# EAGLE library part SSW-113-02-S-Q (library con-samtec)
THROUGH-HOLE .025" SQ POST SOCKET Source: Samtec SSW.pdf
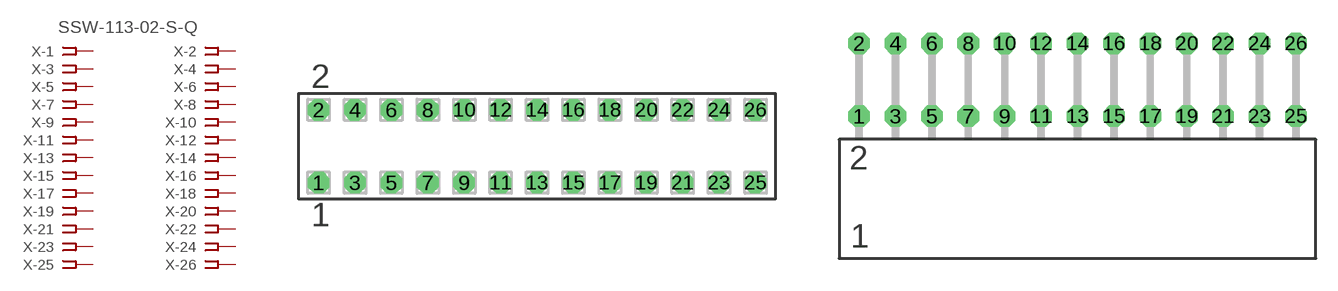
[diagram p135: symbol with the pads of SSW-113-02-S-Q; footprints SSW-113-02-S-Q, SSW-113-02-S-Q-RA]

Designator prefix X; gates -1=FPINV -2=FPIN -3=FPIN -4=FPIN -5=FPIN -6=FPIN -7=FPIN -8=FPIN -9=FPIN -10=FPIN -11=FPIN -12=FPIN -13=FPIN -14=FPIN -15=FPIN -16=FPIN -17=FPIN -18=FPIN -19=FPIN -20=FPIN -21=FPIN -22=FPIN -23=FPIN -24=FPIN -25=FPIN -26=FPIN

## SSW-113-02-S-Q  [SSW-113-02-S-Q]
1  -1:1  pas
2  -2:1  pas
3  -3:1  pas
4  -4:1  pas
5  -5:1  pas
6  -6:1  pas
7  -7:1  pas
8  -8:1  pas
9  -9:1  pas
10  -10:1  pas
11  -11:1  pas
12  -12:1  pas
13  -13:1  pas
14  -14:1  pas
15  -15:1  pas
16  -16:1  pas
17  -17:1  pas
18  -18:1  pas
19  -19:1  pas
20  -20:1  pas
21  -21:1  pas
22  -22:1  pas
23  -23:1  pas
24  -24:1  pas
25  -25:1  pas
26  -26:1  pas

## SSW-113-02-S-QRA  [SSW-113-02-S-Q-RA]
Pads as for SSW-113-02-S-Q

## Footprint SSW-113-02-S-Q (pad centres in mm)
THROUGH-HOLE .025" SQ POST SOCKET Source: Samtec SSW.pdf
drill 1 pad 1.5 octagon: 1 -15.24,-2.54; 2 -15.24,2.54; 3 -12.7,-2.54; 4 -12.7,2.54; 5 -10.16,-2.54; 6 -10.16,2.54; 7 -7.62,-2.54; 8 -7.62,2.54; 9 -5.08,-2.54; 10 -5.08,2.54; 11 -2.54,-2.54; 12 -2.54,2.54; 13 0,-2.54; 14 0,2.54; 15 2.54,-2.54; 16 2.54,2.54; 17 5.08,-2.54; 18 5.08,2.54; 19 7.62,-2.54; 20 7.62,2.54; 21 10.16,-2.54; 22 10.16,2.54; 23 12.7,-2.54; 24 12.7,2.54; 25 15.24,-2.54; 26 15.24,2.54

## Footprint SSW-113-02-S-Q-RA (pad centres in mm)
THROUGH-HOLE .025" SQ POST SOCKET Source: Samtec SSW.pdf
drill 1 pad 1.5 octagon: 1 -15.24,1.524; 2 -15.24,6.604; 3 -12.7,1.524; 4 -12.7,6.604; 5 -10.16,1.524; 6 -10.16,6.604; 7 -7.62,1.524; 8 -7.62,6.604; 9 -5.08,1.524; 10 -5.08,6.604; 11 -2.54,1.524; 12 -2.54,6.604; 13 0,1.524; 14 0,6.604; 15 2.54,1.524; 16 2.54,6.604; 17 5.08,1.524; 18 5.08,6.604; 19 7.62,1.524; 20 7.62,6.604; 21 10.16,1.524; 22 10.16,6.604; 23 12.7,1.524; 24 12.7,6.604; 25 15.24,1.524; 26 15.24,6.604